# EAGLE library part LV4904V (library Audio-Power-amlifier V.2.0)
SANYO-15W + 15W AUDIO POWER AMPLIFIER
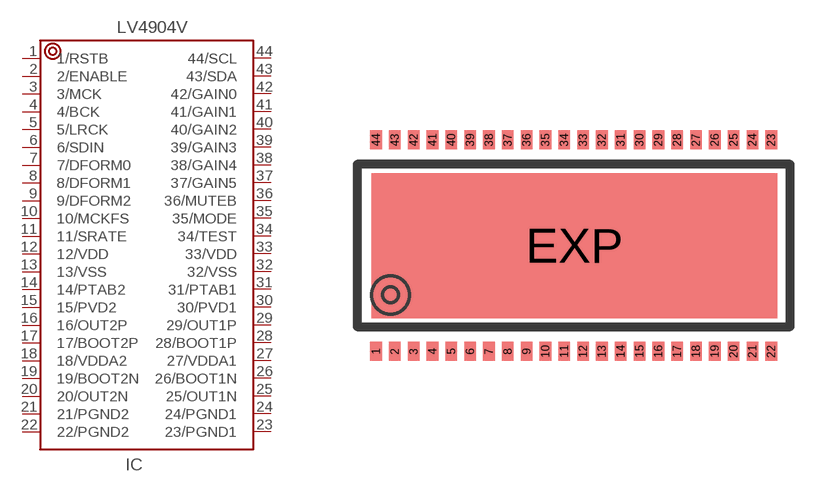
[diagram p156: symbol with the pads of SSOP044J; footprint SSOP044J]

Designator prefix IC

## LV4904V  [SSOP044J]
1  1/RSTB  in
2  2/ENABLE  in
3  3/MCK  in
4  4/BCK  in
5  5/LRCK  in
6  6/SDIN  in
7  7/DFORM0  in
8  8/DFORM1  in
9  9/DFORM2  in
10  10/MCKFS  in
11  11/SRATE  in
12  12/VDD  pwr
13  13/VSS  pwr
14  14/PTAB2
15  15/PVD2
16  16/OUT2P  out
17  17/BOOT2P  out
18  18/VDDA2  pwr
19  19/BOOT2N  out
20  20/OUT2N  out
21  21/PGND2  pwr
22  22/PGND2  pwr
23  23/PGND1  pwr
24  24/PGND1  pwr
25  25/OUT1N  out
26  26/BOOT1N  out
27  27/VDDA1  pwr
28  28/BOOT1P  out
29  29/OUT1P  out
30  30/PVD1
31  31/PTAB1
32  32/VSS  pwr
33  33/VDD  pwr
34  34/TEST  in
35  35/MODE  in
36  36/MUTEB  in
37  37/GAIN5  in
38  38/GAIN4  in
39  39/GAIN3  in
40  40/GAIN2  in
41  41/GAIN1  in
42  42/GAIN0  in
43  43/SDA
44  44/SCL  in

## Footprint SSOP044J (pad centres in mm)
SANYO : SSOP44J(275mil)
smd 0.4 x 0.65: 1 -7.15,-3.65; 2 -6.5,-3.65; 3 -5.85,-3.65; 4 -5.2,-3.65; 5 -4.55,-3.65; 6 -3.9,-3.65; 7 -3.25,-3.65; 8 -2.6,-3.65; 9 -1.95,-3.65; 10 -1.3,-3.65; 11 -0.65,-3.65; 12 0,-3.65; 13 0.65,-3.65; 14 1.3,-3.65; 15 1.95,-3.65; 16 2.6,-3.65; 17 3.25,-3.65; 18 3.9,-3.65; 19 4.55,-3.65; 20 5.2,-3.65; 21 5.85,-3.65; 22 6.5,-3.65; 23 6.5,3.65; 24 5.85,3.65; 25 5.2,3.65; 26 4.55,3.65; 27 3.9,3.65; 28 3.25,3.65; 29 2.6,3.65; 30 1.95,3.65; 31 1.3,3.65; 32 0.65,3.65; 33 0,3.65; 34 -0.65,3.65; 35 -1.3,3.65; 36 -1.95,3.65; 37 -2.6,3.65; 38 -3.25,3.65; 39 -3.9,3.65; 40 -4.55,3.65; 41 -5.2,3.65; 42 -5.85,3.65; 43 -6.5,3.65; 44 -7.15,3.65
smd 14 x 5: EXP -0.3,0